# Altium footprint library 2020-04-06_20-25-18.PcbLib: 3 footprints
Each footprint in its own frame and in the unit in brackets; x right, y up, seen from the top. Pads: shape width x height; smd on the part's side, far side on the other; paste and mask are expansions set on the pad; w line width, h text height; cw(c..) or ccw(c..) is an arc to the next point about the centre after c.
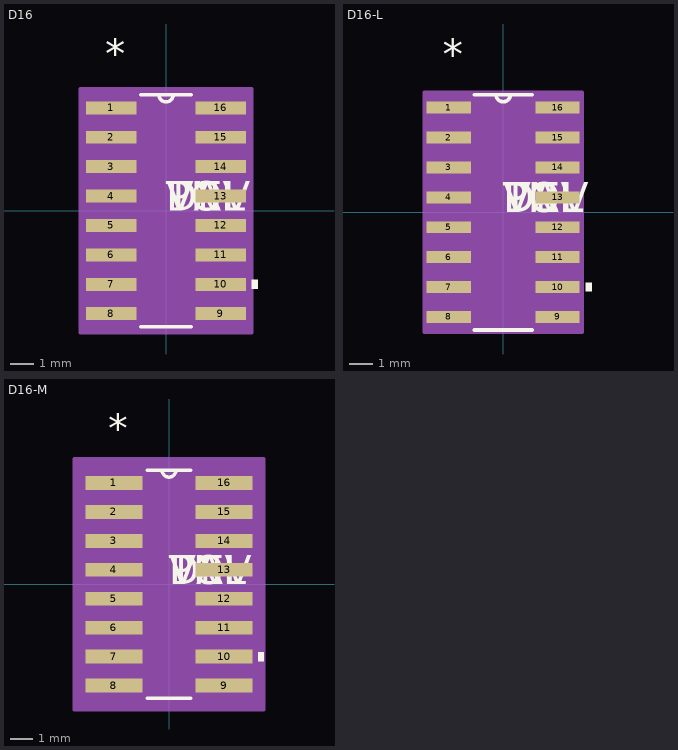
[diagram p0: the footprints below, top view; thin cyan lines are the x and y axes]

## D16 [mil]
pads (16):
  rect 86x22 smd: 1(-93,175) 2(-93,125) 3(-93,75) 4(-93,25) 5(-93,-25) 6(-93,-75) 7(-93,-125) 8(-93,-175) 9(93,-175) 10(93,-125) 11(93,-75) 12(93,-25) 13(93,25) 14(93,75) 15(93,125) 16(93,175)
Top Overlay:
  region: 146,-117.5 156,-117.5 156,-132.5 146,-132.5
  lines w6: -42.89,-197 42.89,-197 ; -42.89,197 42.89,197 ; -12,197 ccw(c0,197) 12,197
  text "*" at -103,242 h50
  text "PN" at 0,0 h50
  text "DEV" at 0,0 h50
  text "VAL" at 0,0 h50
  text "TOL" at 0,0 h50
Mechanical 13:
  lines w0: -12,197 ccw(c0,197) 12,197
  text "*" at -103,242 h50
  text "RefDes2" at 0,0 h50
Mechanical 15:
  region: 146,-207 -146,-207 -146,207 146,207
  lines w6: -146,-207 -146,207 146,207 146,-207 -146,-207
3D body "D16.stp": height 69.1, standoff 0, extent -122,-197 122,197

## D16-L [mil]
pads (16):
  rect 74x20 smd: 1(-91,175) 2(-91,125) 3(-91,75) 4(-91,25) 5(-91,-25) 6(-91,-75) 7(-91,-125) 8(-91,-175) 9(91,-175) 10(91,-125) 11(91,-75) 12(91,-25) 13(91,25) 14(91,75) 15(91,125) 16(91,175)
Top Overlay:
  region: 138,-117.5 148,-117.5 148,-132.5 138,-132.5
  lines w6: -48.75,-197 48.75,-197 ; -48.75,197 48.75,197 ; -12,197 ccw(c0,197) 12,197
  text "*" at -101,240 h50
  text "PN" at 0,0 h50
  text "DEV" at 0,0 h50
  text "VAL" at 0,0 h50
  text "TOL" at 0,0 h50
Mechanical 13:
  lines w0: -12,197 ccw(c0,197) 12,197
  text "*" at -101,240 h50
  text "RefDes2" at 0,0 h50
Mechanical 15:
  region: 132,-201 -132,-201 -132,201 132,201
  lines w6: -132,-201 -132,201 132,201 132,-201 -132,-201
3D body "D16-L.stp": height 69.1, standoff 0, extent -122,-197 122,197

## D16-M [mil]
pads (16):
  rect 98x24 smd: 1(-95,175) 2(-95,125) 3(-95,75) 4(-95,25) 5(-95,-25) 6(-95,-75) 7(-95,-125) 8(-95,-175) 9(95,-175) 10(95,-125) 11(95,-75) 12(95,-25) 13(95,25) 14(95,75) 15(95,125) 16(95,175)
Top Overlay:
  region: 154,-117.5 164,-117.5 164,-132.5 154,-132.5
  lines w6: -37.54,-197 37.54,-197 ; -37.54,197 37.54,197 ; -12,197 ccw(c0,197) 12,197
  text "*" at -105,244 h50
  text "PN" at 0,0 h50
  text "DEV" at 0,0 h50
  text "VAL" at 0,0 h50
  text "TOL" at 0,0 h50
Mechanical 13:
  lines w0: -12,197 ccw(c0,197) 12,197
  text "*" at -105,244 h50
  text "RefDes2" at 0,0 h50
Mechanical 15:
  region: 164,-217 -164,-217 -164,217 164,217
  lines w6: -164,-217 -164,217 164,217 164,-217 -164,-217
3D body "D16-M.stp": height 69.1, standoff 0, extent -122,-197 122,197